# Altium schematic symbol library TLC555ID.SchLib: 1 symbol
Pins are listed as number, name and electrical type; pins without a type are passive.

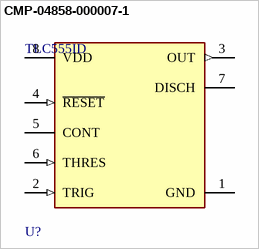
[diagram p0: symbol CMP-04858-000007-1]

## CMP-04858-000007-1
designator U?, comment TLC555ID
IC OSC SGL TIMER 2.1MHZ 8-SOIC; Manufacturer: Texas Instruments; Nominal Supply Current: 170-360uA; Min Supply Voltage: 3V; Max Supply Voltage: 15V; Number Of Timers/Counters: 1; Standoff Height: 0.11mm; RoHS: TRUE; Package: D0008A; Automotive: No; ComponentLink2Description: Datasheet; Category: IC; Mouser Description: Timers & Support Products CMOS; Ambient Temperature Range High: +85°C; Device Class L1: Integrated Circuits (ICs); Lead Free: Yes; Temperature: -40°C to +85°C; Frequency: 2.1MHz; Device Class L2: Clock and Timing; ComponentLink2URL: http://www.ti.com/lit/ds/symlink/tlc555.pdf; Ambient Temperature Range Low: -40°C; Device Class L3: Timers and Oscillators; Temperature Range High: +85°C; Temperature Range Low: -40°C; Octopart: https://octopart.com/tlc555id-texas+instruments-516571; Digikey Description: IC OSC SGL TIMER 2.1MHZ 8-SOIC; Height: 1.75mm; Manufacturer Part Number: TLC555ID
footprint FP-D0008A-IPC_B
footprint FP-D0008A-IPC_A
footprint FP-D0008A-IPC_C
footprint FP-D0008A-MFG
pins: 1 GND (power), 2 TRIG (in), 3 OUT (out), 4 ~{RESET} (in), 5 CONT, 6 THRES (in), 7 DISCH (oc), 8 VDD (power)